# EAGLE library part LSM303DLHC (library sensors)
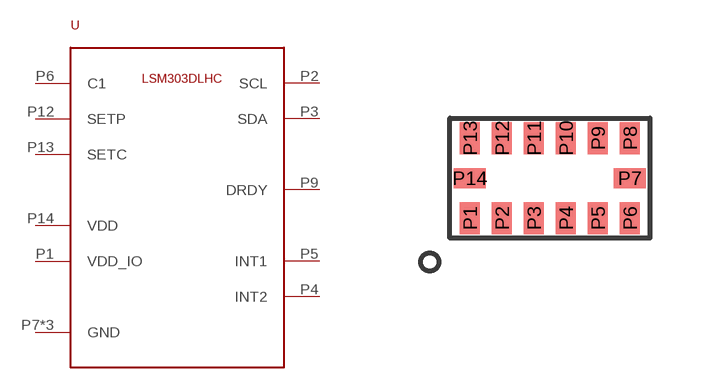
[diagram p0: symbol with the pads of LGA_3X5X1_14L; footprint LGA_3X5X1_14L]

Designator prefix -

## LSM303DLHC  [LGA_3X5X1_14L]
P1  VDD_IO
P2  SCL
P3  SDA
P4  INT2
P5  INT1
P6  C1
P7  GND
P9  DRDY
P10  GND
P11  GND
P12  SETP
P13  SETC
P14  VDD

## Footprint LGA_3X5X1_14L (pad centres in mm)
smd 0.5 x 0.8: P1 -2,-1; P2 -1.2,-1; P3 -0.4,-1; P4 0.4,-1; P5 1.2,-1; P6 2,-1; P8 2,1; P9 1.2,1; P10 0.4,1; P11 -0.4,1; P12 -1.2,1; P13 -2,1
smd 0.8 x 0.5: P7 2,0; P14 -2,0